# EAGLE library part PMOSSOT26 (library dragino)
MOS FET
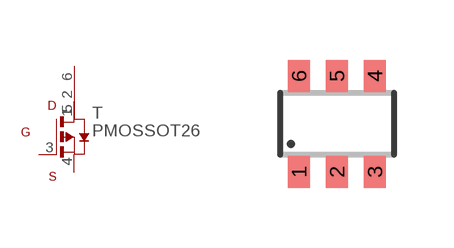
[diagram p22: symbol with the pads of SOT26; footprint SOT26]

Designator prefix T

## PMOSSOT26 (OC_FARNELL: unknown; OC_NEWARK: unknown)  [SOT26]
1  D  pas
2  D1  pas
3  G  pas
4  S  pas
5  D2  pas
6  D3  pas

## Footprint SOT26 (pad centres in mm)
Small Outline Transistor 6 lead
smd 0.55 x 0.8: 1 -0.95,-1.2; 2 0,-1.2; 3 0.95,-1.2; 4 0.95,1.2; 5 0,1.2; 6 -0.95,1.2